# Altium schematic symbol library LM74610-Q1.SchLib: 1 symbol
Pins are listed as number, name and electrical type; pins without a type are passive.

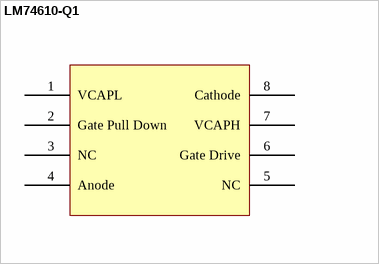
[diagram p0: symbol LM74610-Q1]

## LM74610-Q1
designator *
pins: 1 VCAPL, 2 Gate Pull Down, 3 NC, 4 Anode, 5 NC, 6 Gate Drive, 7 VCAPH, 8 Cathode